# Altium integrated library 434133025816.IntLib: 1 symbol
Pins are listed as number, name and electrical type; pins without a type are passive.

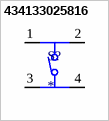
[diagram p0: symbol 434133025816]

## 434133025816
designator S?
MF: {'manufacturer': u'W\xfcrth Elektronik'}; MP: 434133025816; Package: None; Price: None; Value: *; Availability: Unavailable
footprint 434133025816
pins: 1, 2, 3, 4